# Altium footprint library ConnectorsLib.PcbLib: 142 footprints (part 1 of 9)
Each footprint in its own frame and in the unit in brackets; x right, y up, seen from the top. Pads: shape width x height; smd on the part's side, far side on the other; paste and mask are expansions set on the pad; w line width, h text height; cw(c..) or ccw(c..) is an arc to the next point about the centre after c.
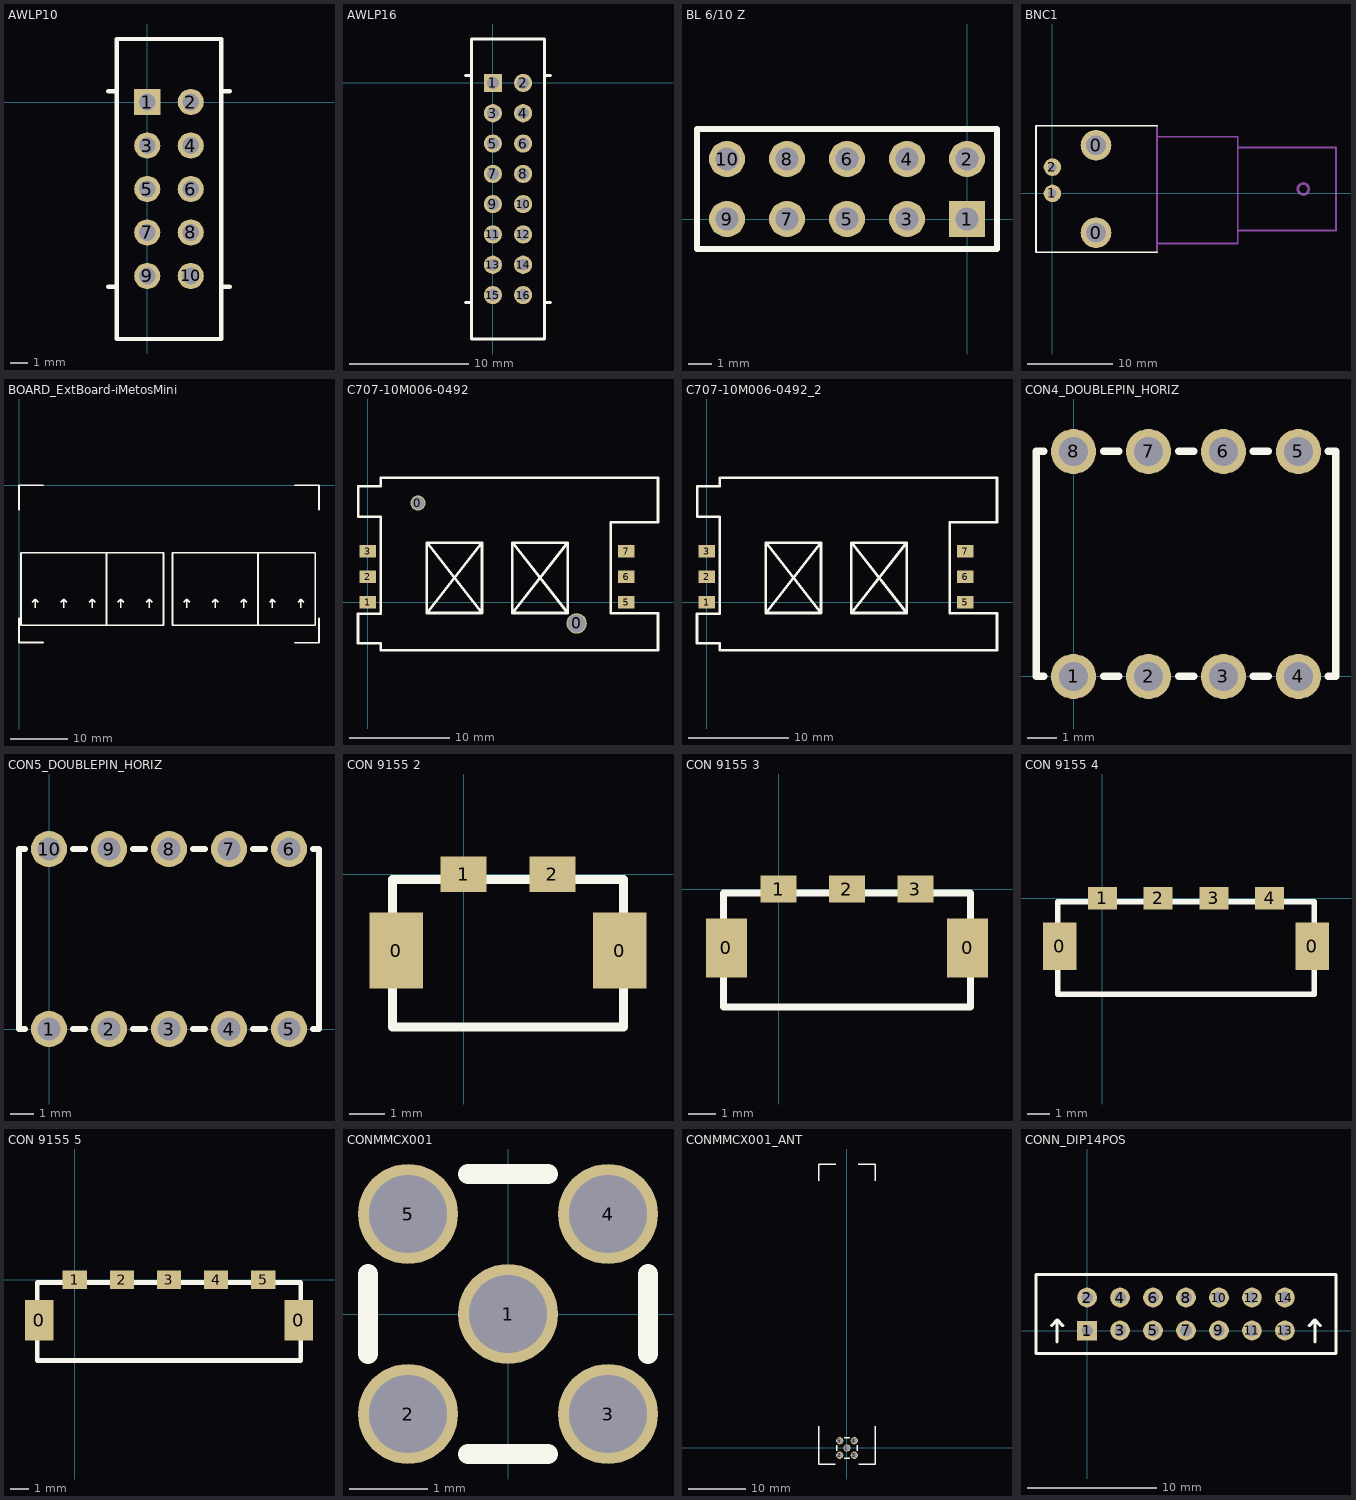
[diagram p0: the footprints below, top view; thin cyan lines are the x and y axes]

## AWLP10 [mil]
pads (10):
  rect 60x60 hole 39: 1(0,0)
  round 60 hole 39: 2(100,0) 3(0,-100) 4(100,-100) 5(0,-200) 6(100,-200) 7(0,-300) 8(100,-300) 9(0,-400) 10(100,-400)
Top Overlay:
  lines w10: -90,-425 -70,-425 ; -90,25 -70,25 ; 170,-425 190,-425 ; 170,25 190,25 ; -70,-545 170,-545 170,145 -70,145 -70,-545

## AWLP16 [mil]
pads (16):
  rect 60x60 hole 39: 1(0,0)
  round 60 hole 39: 2(100,0) 3(0,-100) 4(100,-100) 5(0,-200) 6(100,-200) 7(0,-300) 8(100,-300) 9(0,-400) 10(100,-400) 11(0,-500) 12(100,-500) 13(0,-600) 14(100,-600) 15(0,-700) 16(100,-700)
Top Overlay:
  lines w10: -90,-725 -70,-725 ; -90,25 -70,25 ; 170,-725 190,-725 ; 170,25 190,25 ; -70,-845 170,-845 170,145 -70,145 -70,-845

## BL 6/10 Z [mil]
pads (10):
  rect 60x60 hole 39: 1(0,0)
  round 60 hole 39: 2(0,100) 3(-100,0) 4(-100,100) 5(-200,0) 6(-200,100) 7(-300,0) 8(-300,100) 9(-400,0) 10(-400,100)
Top Overlay:
  lines w10: -450,-50 -450,150 50,150 50,-50 -450,-50
3D body: height 277, standoff 276, extent -22.25,-22 22.08,22.42
3D body: height 276, standoff 274, extent -33.75,-33.75 33.7,33.83
3D body: height 274, standoff -0.5, extent -50.02,-48.02 50.02,50.02
3D body: height -32, standoff -88, extent -28,-28 27.71,27.76
3D body: height 0, standoff -50, extent -11,-11 10.91,10.96
3D body: height 0, standoff -50, extent -111,-11 -89.09,10.96
3D body: height -32, standoff -88, extent -128,-28 -72.29,27.76
3D body: height 274, standoff -0.5, extent -150.02,-48.02 -49.98,50.02
3D body: height 276, standoff 274, extent -133.75,-33.75 -66.3,33.83
3D body: height 277, standoff 276, extent -122.25,-22 -77.92,22.42
3D body: height 0, standoff -50, extent -211,-11 -189.09,10.96
3D body: height -32, standoff -88, extent -228,-28 -172.29,27.76
3D body: height 274, standoff -0.5, extent -250.02,-48.02 -149.98,50.02
3D body: height 276, standoff 274, extent -233.75,-33.75 -166.3,33.83
3D body: height 277, standoff 276, extent -222.25,-22 -177.92,22.42
3D body: height 0, standoff -50, extent -311,-11 -289.09,10.96
3D body: height -32, standoff -88, extent -328,-28 -272.29,27.76
3D body: height 274, standoff -0.5, extent -350.02,-48.02 -249.98,50.02
3D body: height 276, standoff 274, extent -333.75,-33.75 -266.3,33.83
3D body: height 277, standoff 276, extent -322.25,-22 -277.92,22.42
3D body: height 0, standoff -50, extent -411,-11 -389.09,10.96
3D body: height -32, standoff -88, extent -428,-28 -372.29,27.76
3D body: height 274, standoff -0.5, extent -450.02,-48.02 -349.98,50.02
3D body: height 276, standoff 274, extent -433.75,-33.75 -366.3,33.83
3D body: height 277, standoff 276, extent -422.25,-22 -377.92,22.42
3D body: height 0, standoff -50, extent -410.91,89.04 -389,111
3D body: height -32, standoff -88, extent -427.71,72.24 -372,128
3D body: height 274, standoff -0.5, extent -450.02,49.98 -349.98,148.02
3D body: height 276, standoff 274, extent -433.7,66.17 -366.25,133.75
3D body: height 277, standoff 276, extent -422.08,77.58 -377.75,122
3D body: height 0, standoff -50, extent -310.91,89.04 -289,111
3D body: height -32, standoff -88, extent -327.71,72.24 -272,128
3D body: height 274, standoff -0.5, extent -350.02,49.98 -249.98,148.02
3D body: height 276, standoff 274, extent -333.7,66.17 -266.25,133.75
3D body: height 277, standoff 276, extent -322.08,77.58 -277.75,122
3D body: height 0, standoff -50, extent -210.91,89.04 -189,111
3D body: height -32, standoff -88, extent -227.71,72.24 -172,128
3D body: height 274, standoff -0.5, extent -250.02,49.98 -149.98,148.02
3D body: height 276, standoff 274, extent -233.7,66.17 -166.25,133.75
3D body: height 277, standoff 276, extent -222.08,77.58 -177.75,122
3D body: height 0, standoff -50, extent -110.91,89.04 -89,111
3D body: height -32, standoff -88, extent -127.71,72.24 -72,128
3D body: height 274, standoff -0.5, extent -150.02,49.98 -49.98,148.02
3D body: height 276, standoff 274, extent -133.7,66.17 -66.25,133.75
3D body: height 277, standoff 276, extent -122.08,77.58 -77.75,122
3D body: height 0, standoff -50, extent -10.91,89.04 11,111
3D body: height -32, standoff -88, extent -27.71,72.24 28,128
3D body: height 274, standoff -0.5, extent -50.02,49.98 50.02,148.02
3D body: height 276, standoff 274, extent -33.7,66.17 33.75,133.75
3D body: height 277, standoff 276, extent -22.08,77.58 22.25,122

## BNC1 [mil]
pads (4):
  round 140 hole 90: 0(200,-180) 0(200,220)
  round 80 hole 39: 1(0,0) 2(0,120)
Top Overlay:
  lines w8: 480,-270 -75,-270 -75,310 480,310
Mechanical 1:
  circle w12: c1150,20 r25
  lines w8: 480,-270 480,310 ; 480,-230 850,-230 850,260 480,260 ; 850,-170 1300,-170 1300,210 850,210

## BOARD_ExtBoard-iMetosMini [mil]
Top Overlay:
  lines w10: 91.5,-804.75 111.5,-784.75 ; 111.5,-844.75 111.5,-784.75 ; 131.5,-804.75 111.5,-784.75 ; 288.5,-804.75 308.5,-784.75 ; 308.5,-844.75 308.5,-784.75 ; 328.5,-804.75 308.5,-784.75 ; 485.5,-804.75 505.5,-784.75 ; 505.5,-844.75 505.5,-784.75 ; 525.5,-804.75 505.5,-784.75 ; 682.5,-804.75 702.5,-784.75 ; 702.5,-844.75 702.5,-784.75 ; 722.5,-804.75 702.5,-784.75 ; 879.5,-804.75 899.5,-784.75 ; 899.5,-844.75 899.5,-784.75 ; 919.5,-804.75 899.5,-784.75 ; 1137.5,-804.75 1157.5,-784.75 ; 1157.5,-844.75 1157.5,-784.75 ; 1177.5,-804.75 1157.5,-784.75 ; 1334.5,-804.75 1354.5,-784.75 ; 1354.5,-844.75 1354.5,-784.75 ; 1374.5,-804.75 1354.5,-784.75 ; 1531.5,-804.75 1551.5,-784.75 ; 1551.5,-844.75 1551.5,-784.75 ; 1571.5,-804.75 1551.5,-784.75 ; 1728.5,-804.75 1748.5,-784.75 ; 1748.5,-844.75 1748.5,-784.75 ; 1768.5,-804.75 1748.5,-784.75 ; 1925.5,-804.75 1945.5,-784.75 ; 1945.5,-844.75 1945.5,-784.75 ; 1965.5,-804.75 1945.5,-784.75
  lines w12: 0,-916 0,-1084 168,-1084 ; 0,-168 0,0 168,0 ; 1902,-1085 2070,-1085 2070,-917 ; 1902,0 2070,0 2070,-168 ; 603.5,-964.75 603.5,-464.75 ; 603.5,-964.75 13.5,-964.75 13.5,-464.75 603.5,-464.75 ; 603.5,-964.75 997.5,-964.75 997.5,-464.75 603.5,-464.75 ; 603.5,-964.75 603.5,-464.75 ; 1649.5,-964.75 1649.5,-464.75 ; 1649.5,-964.75 2043.5,-964.75 2043.5,-464.75 1649.5,-464.75 ; 1649.5,-964.75 1059.5,-964.75 1059.5,-464.75 1649.5,-464.75 ; 1649.5,-964.75 1649.5,-464.75
3D body: height 549, standoff 547, extent 170,-314 319.41,-164.3
3D body: height 548, standoff 547, extent 1736,-330 1915.29,-150.36
3D body: height 548, standoff 547, extent 155,-329 334.29,-149.36
3D body: height 549, standoff 547, extent 1751,-315 1900.41,-165.3
3D body: height 1136.04, standoff 537.78, extent 1646.5,-961.53 2066.18,-467.75
3D body: height 1136.04, standoff 537.59, extent 1054.82,-961.53 1674.5,-467.75
3D body: height 1136.04, standoff 537.59, extent 8.81,-961.53 628.5,-467.75
3D body: height 547, standoff 480, extent 0,-1085 2070,0
3D body: height 1136.04, standoff 537.78, extent 600.5,-961.53 1020.18,-467.75

## C707-10M006-0492 [mil]
pads (8):
  round 60 hole 51: 0(196,389)
  round 80 hole 71 mask+0: 0(818,-83)
  rect 65x50 smd: 1(0,0) 2(0,100) 3(0,200) 5(1012,0) 6(1012,100) 7(1012,200)
Top Overlay:
  lines w10: 231,-42 447,-42 ; 231,-42 231,234 ; 231,-42 447,234 ; 231,234 447,234 ; 231,234 447,-42 ; 447,-42 447,234 ; 566,-42 783,-42 ; 566,-42 783,234 ; 566,-42 566,234 ; 566,234 783,234 ; 566,234 783,-42 ; 783,-42 783,234 ; -39,-160 50,-160 50,-188 1137,-188 1137,-43 951,-43 951,313 1137,313 1137,488 50,488 50,455 -38,455 -38,335 50,335 50,-45 -39,-45 -39,-160
3D body: height 71.65, standoff 62.99, extent 591.5,-15.5 657.5,16.5
3D body: height 71.65, standoff 62.99, extent 657.5,-15.5 695,16.5
3D body: height 71.65, standoff 62.99, extent 591.5,84.5 657.5,116.5
3D body: height 71.65, standoff 62.99, extent 657.5,84.5 695,116.5
3D body: height 71.65, standoff 62.99, extent 591.5,184.5 657.5,216.5
3D body: height 71.65, standoff 62.99, extent 657.5,184.5 695,216.5
3D body: height 71.65, standoff 62.99, extent 297.5,-16.5 363.5,15.5
3D body: height 71.65, standoff 62.99, extent 260,-16.5 297.5,15.5
3D body: height 71.65, standoff 62.99, extent 297.5,83.5 363.5,115.5
3D body: height 71.65, standoff 62.99, extent 260,83.5 297.5,115.5
3D body: height 71.65, standoff 62.99, extent 260,184.5 297.5,216.5
3D body: height 71.65, standoff 62.99, extent 297.5,184.5 363.5,216.5
3D body: height 20.47, standoff 11.81, extent 951,-10 995,10
3D body: height 20.47, standoff 0, extent 986.5,-10 995,10
3D body: height 8.66, standoff 0, extent 986.5,-10 1030.5,10
3D body: height 20.47, standoff 11.81, extent 951,90 995,110
3D body: height 20.47, standoff 0, extent 986.5,90 995,110
3D body: height 8.66, standoff 0, extent 986.5,90 1030.5,110
3D body: height 20.47, standoff 11.81, extent 951,190 995,210
3D body: height 20.47, standoff 0, extent 986.5,190 995,210
3D body: height 8.66, standoff 0, extent 986.5,190 1030.5,210
3D body: height 20.47, standoff 11.81, extent 6,-10 50,10
3D body: height 20.47, standoff 0, extent 6,-10 14.5,10
3D body: height 8.66, standoff 0, extent -29.5,-10 14.5,10
3D body: height 20.47, standoff 11.81, extent 6,90 50,110
3D body: height 20.47, standoff 0, extent 6,90 14.5,110
3D body: height 8.66, standoff 0, extent -29.5,90 14.5,110
3D body: height 8.66, standoff 0, extent -29.5,190 14.5,210
3D body: height 20.47, standoff 0, extent 6,190 14.5,210
3D body: height 20.47, standoff 11.81, extent 6,190 50,210
3D body: height 87.8, standoff 0, extent 556.51,-71 695.29,9.04
3D body: height 87.8, standoff 0, extent 557.05,199.87 695.84,279.91
3D body: height 87.8, standoff 0, extent 259.51,-71 398.29,9.04
3D body: height 87.8, standoff 0, extent 259.68,199.96 398.47,280
3D body: height 87.8, standoff 0, extent -39,-188 1137,488

## C707-10M006-0492_2 [mil]
pads (6):
  rect 65x50 smd: 1(0,0) 2(0,100) 3(0,200) 5(1012,0) 6(1012,100) 7(1012,200)
Top Overlay:
  lines w10: 231,-42 447,234 ; 231,-42 231,234 ; 231,-42 447,-42 ; 231,234 447,-42 ; 231,234 447,234 ; 447,-42 447,234 ; 566,-42 566,234 ; 566,-42 783,234 ; 566,-42 783,-42 ; 566,234 783,-42 ; 566,234 783,234 ; 783,-42 783,234 ; -39,-160 -39,-45 50,-45 50,335 -38,335 -38,455 50,455 50,488 1137,488 1137,313 951,313 951,-43 1137,-43 1137,-188 50,-188 50,-160 -39,-160
3D body: height 87.8, standoff 0, extent -39,-188 1137,488
3D body: height 87.8, standoff 0, extent 259.68,199.96 398.47,280
3D body: height 87.8, standoff 0, extent 259.51,-71 398.29,9.04
3D body: height 87.8, standoff 0, extent 557.05,199.87 695.84,279.91
3D body: height 87.8, standoff 0, extent 556.51,-71 695.29,9.04
3D body: height 20.47, standoff 11.81, extent 6,190 50,210
3D body: height 20.47, standoff 0, extent 6,190 14.5,210
3D body: height 8.66, standoff 0, extent -29.5,190 14.5,210
3D body: height 8.66, standoff 0, extent -29.5,90 14.5,110
3D body: height 20.47, standoff 0, extent 6,90 14.5,110
3D body: height 20.47, standoff 11.81, extent 6,90 50,110
3D body: height 8.66, standoff 0, extent -29.5,-10 14.5,10
3D body: height 20.47, standoff 0, extent 6,-10 14.5,10
3D body: height 20.47, standoff 11.81, extent 6,-10 50,10
3D body: height 8.66, standoff 0, extent 986.5,190 1030.5,210
3D body: height 20.47, standoff 0, extent 986.5,190 995,210
3D body: height 20.47, standoff 11.81, extent 951,190 995,210
3D body: height 8.66, standoff 0, extent 986.5,90 1030.5,110
3D body: height 20.47, standoff 0, extent 986.5,90 995,110
3D body: height 20.47, standoff 11.81, extent 951,90 995,110
3D body: height 8.66, standoff 0, extent 986.5,-10 1030.5,10
3D body: height 20.47, standoff 0, extent 986.5,-10 995,10
3D body: height 20.47, standoff 11.81, extent 951,-10 995,10
3D body: height 71.65, standoff 62.99, extent 297.5,184.5 363.5,216.5
3D body: height 71.65, standoff 62.99, extent 260,184.5 297.5,216.5
3D body: height 71.65, standoff 62.99, extent 260,83.5 297.5,115.5
3D body: height 71.65, standoff 62.99, extent 297.5,83.5 363.5,115.5
3D body: height 71.65, standoff 62.99, extent 260,-16.5 297.5,15.5
3D body: height 71.65, standoff 62.99, extent 297.5,-16.5 363.5,15.5
3D body: height 71.65, standoff 62.99, extent 657.5,184.5 695,216.5
3D body: height 71.65, standoff 62.99, extent 591.5,184.5 657.5,216.5
3D body: height 71.65, standoff 62.99, extent 657.5,84.5 695,116.5
3D body: height 71.65, standoff 62.99, extent 591.5,84.5 657.5,116.5
3D body: height 71.65, standoff 62.99, extent 657.5,-15.5 695,16.5
3D body: height 71.65, standoff 62.99, extent 591.5,-15.5 657.5,16.5

## CON4_DOUBLEPIN_HORIZ [mil]
pads (8):
  round 60 hole 39: 1(0,0) 2(100,0) 3(200,0) 4(300,0) 5(300,300) 6(200,300) 7(100,300) 8(0,300)
Top Overlay:
  lines w10: -40,0 -50,0 -50,300 -40,300 ; 40,0 60,0 ; 40,300 60,300 ; 140,0 160,0 ; 140,300 160,300 ; 240,0 260,0 ; 240,300 260,300 ; 340,0 350,0 350,300 340,300

## CON5_DOUBLEPIN_HORIZ [mil]
pads (10):
  round 60 hole 39: 1(0,0) 2(100,0) 3(200,0) 4(300,0) 5(400,0) 6(400,300) 7(300,300) 8(200,300) 9(100,300) 10(0,300)
Top Overlay:
  lines w10: -40,0 -50,0 -50,300 -40,300 ; 40,0 60,0 ; 40,300 60,300 ; 140,0 160,0 ; 140,300 160,300 ; 240,0 260,0 ; 240,300 260,300 ; 340,0 360,0 ; 340,300 360,300 ; 440,0 450,0 450,300 440,300

## CON 9155 2 [mm] "2 ways 9155 battery connector"
pads (4):
  rect 1.5x2.15 smd: 0(-1.9,-2.15) 0(4.4,-2.15)
  rect 1.3x1 smd: 1(0,0) 2(2.5,0)
Top Overlay:
  lines w0.254: -2,-4.3 4.5,-4.3 4.5,-0.15 -2,-0.15 -2,-4.3
3D body: height 3.89, standoff -0.01, extent -2.5,-6.15 5,0.35

## CON 9155 3 [mm] "3 ways 9155 battery connector"
pads (5):
  rect 1.5x2.15 smd: 0(-1.9,-2.15) 0(6.9,-2.15)
  rect 1.3x1 smd: 1(0,0) 2(2.5,0) 3(5,0)
Top Overlay:
  lines w0.254: -2,-4.3 -2,-0.15 7,-0.15 7,-4.3 -2,-4.3
3D body: height 3.89, standoff -0.01, extent -2.5,-6.15 7.5,0.35

## CON 9155 4 [mm] "4 ways 9155 battery connector"
pads (6):
  rect 1.5x2.15 smd: 0(-1.9,-2.15) 0(9.4,-2.15)
  rect 1.3x1 smd: 1(0,0) 2(2.5,0) 3(5,0) 4(7.5,0)
Top Overlay:
  lines w0.254: -2,-4.3 9.5,-4.3 9.5,-0.15 -2,-0.15 -2,-4.3
3D body: height 3.89, standoff -0.01, extent -2.5,-6.15 10,0.35

## CON 9155 5 [mm] "5 ways 9155 battery connector"
pads (7):
  rect 1.5x2.15 smd: 0(-1.9,-2.15) 0(11.9,-2.15)
  rect 1.3x1 smd: 1(0,0) 2(2.5,0) 3(5,0) 4(7.5,0) 5(10,0)
Top Overlay:
  lines w0.254: -2,-4.3 12,-4.3 12,-0.15 -2,-0.15 -2,-4.3
3D body: height 3.89, standoff -0.01, extent -2.5,-6.15 12.5,0.35

## CONMMCX001 [mil]
pads (5):
  round 50 hole 39: 1(0,0) 2(-50,-50) 3(50,-50) 4(50,50) 5(-50,50)
Top Overlay:
  lines w10: -70,-20 -70,20 ; -20,-70 20,-70 ; -20,70 20,70 ; 70,-20 70,20
3D body: height 177.17, standoff 43.31, extent -68.5,-69.01 68.75,68.51
3D body: height 43.31, standoff 0, extent -69,-69.5 69.5,69

## CONMMCX001_ANT [mil] "MMCX Connector with antenna"
pads (5):
  round 50 hole 39: 1(0,0) 2(-50,-50) 3(50,-50) 4(50,50) 5(-50,50)
Top Overlay:
  lines w10: -193.5,149 -193.5,-110 -80,-110 ; -193.5,1836 -193.5,1952 -77.5,1952 ; -70,-20 -70,20 ; -20,-70 20,-70 ; -20,70 20,70 ; 70,-20 70,20 ; 77.5,1952 193.5,1952 193.5,1835.5 ; 80,-110 193.5,-110 193.5,149
3D body: height 43.31, standoff 0, extent -69,-69.5 69.5,69
3D body: height 177.17, standoff 43.31, extent -68.5,-69.01 68.75,68.51
3D body: height 192.91, standoff 177.17, extent -61,-61 60.57,60.81
3D body: height 208.66, standoff 192.91, extent -68.5,-69 68.75,68.52
3D body: height 347.24, standoff 208.66, extent -68.5,-76 69,95
3D body: height 349.21, standoff 347.24, extent -67.5,-68.5 67.79,67.06
3D body: height 374.04, standoff 181.1, extent -96.5,95 96.82,96.5
3D body: height 414.66, standoff 140.16, extent -137.5,96.5 137.55,1895.71

## CONN_DIP14POS [mil]
pads (14):
  rect 60x60 hole 35: 1(0,0)
  round 60 hole 35: 2(0,101) 3(100,1) 4(100,101) 5(200,1) 6(200,101) 7(300,1) 8(300,101) 9(400,1) 10(400,101) 11(500,1) 12(500,101) 13(600,1) 14(600,101)
Top Overlay:
  lines w10: -108,16 -91,33 ; -91,-33 -91,33 ; -74,16 -91,33 ; 674,16 691,33 ; 691,-33 691,33 ; 708,16 691,33 ; -155,-69 755,-69 755,171 -155,171 -155,-69